# Altium footprint library UL_STM32MP135DAG7.PcbLib: 1 footprints
Each footprint in its own frame and in the unit in brackets; x right, y up, seen from the top. Pads: shape width x height; smd on the part's side, far side on the other; paste and mask are expansions set on the pad; w line width, h text height; cw(c..) or ccw(c..) is an arc to the next point about the centre after c.
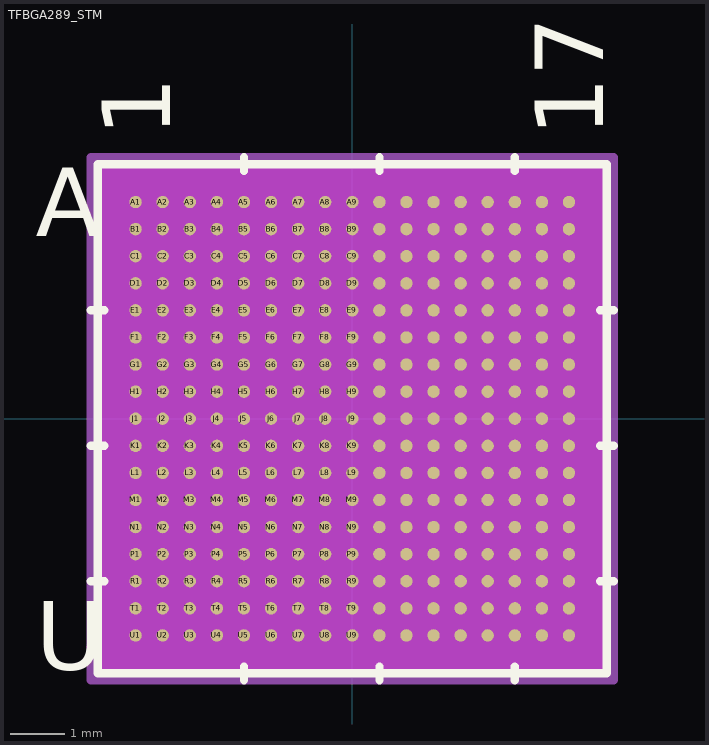
[diagram p0: the footprint, top view; thin cyan lines are the x and y axes]

## TFBGA289_STM [mil]
pads (289):
  round 9 smd paste+0 mask+0: A1(-157.48,157.48) A2(-137.8,157.48) A3(-118.11,157.48) A4(-98.43,157.48) A5(-78.74,157.48) A6(-59.06,157.48) A7(-39.37,157.48) A8(-19.68,157.48) A9(0,157.48) A10(19.68,157.48) A11(39.37,157.48) A12(59.06,157.48) A13(78.74,157.48) A14(98.43,157.48) A15(118.11,157.48) A16(137.8,157.48) A17(157.48,157.48) B1(-157.48,137.8) B2(-137.8,137.8) B3(-118.11,137.8) B4(-98.43,137.8) B5(-78.74,137.8) B6(-59.06,137.8) B7(-39.37,137.8) B8(-19.68,137.8) B9(0,137.8) B10(19.68,137.8) B11(39.37,137.8) B12(59.06,137.8) B13(78.74,137.8) B14(98.43,137.8) B15(118.11,137.8) B16(137.8,137.8) B17(157.48,137.8) C1(-157.48,118.11) C2(-137.8,118.11) C3(-118.11,118.11) C4(-98.43,118.11) C5(-78.74,118.11) C6(-59.06,118.11) C7(-39.37,118.11) C8(-19.68,118.11) C9(0,118.11) C10(19.68,118.11) C11(39.37,118.11) C12(59.06,118.11) C13(78.74,118.11) C14(98.43,118.11) C15(118.11,118.11) C16(137.8,118.11) C17(157.48,118.11) D1(-157.48,98.43) D2(-137.8,98.43) D3(-118.11,98.43) D4(-98.43,98.43) D5(-78.74,98.43) D6(-59.06,98.43) D7(-39.37,98.43) D8(-19.68,98.43) D9(0,98.43) D10(19.68,98.43) D11(39.37,98.43) D12(59.06,98.43) D13(78.74,98.43) D14(98.43,98.43) D15(118.11,98.43) D16(137.8,98.43) D17(157.48,98.43) E1(-157.48,78.74) E2(-137.8,78.74) E3(-118.11,78.74) E4(-98.43,78.74) E5(-78.74,78.74) E6(-59.06,78.74) E7(-39.37,78.74) E8(-19.68,78.74) E9(0,78.74) E10(19.68,78.74) E11(39.37,78.74) E12(59.06,78.74) E13(78.74,78.74) E14(98.43,78.74) E15(118.11,78.74) E16(137.8,78.74) E17(157.48,78.74) F1(-157.48,59.06) F2(-137.8,59.06) F3(-118.11,59.06) F4(-98.43,59.06) F5(-78.74,59.06) F6(-59.06,59.06) F7(-39.37,59.06) F8(-19.68,59.06) F9(0,59.06) F10(19.68,59.06) F11(39.37,59.06) F12(59.06,59.06) F13(78.74,59.06) F14(98.43,59.06) F15(118.11,59.06) F16(137.8,59.06) F17(157.48,59.06) G1(-157.48,39.37) G2(-137.8,39.37) G3(-118.11,39.37) G4(-98.43,39.37) G5(-78.74,39.37) G6(-59.06,39.37) G7(-39.37,39.37) G8(-19.68,39.37) G9(0,39.37) G10(19.68,39.37) G11(39.37,39.37) G12(59.06,39.37) G13(78.74,39.37) G14(98.43,39.37) G15(118.11,39.37) G16(137.8,39.37) G17(157.48,39.37) H1(-157.48,19.68) H2(-137.8,19.68) H3(-118.11,19.68) H4(-98.43,19.68) H5(-78.74,19.68) H6(-59.06,19.68) H7(-39.37,19.68) H8(-19.68,19.68) H9(0,19.68) H10(19.68,19.68) H11(39.37,19.68) H12(59.06,19.68) H13(78.74,19.68) H14(98.43,19.68) H15(118.11,19.68) H16(137.8,19.68) H17(157.48,19.68) J1(-157.48,0) J2(-137.8,0) J3(-118.11,0) J4(-98.43,0) J5(-78.74,0) J6(-59.06,0) J7(-39.37,0) J8(-19.68,0) J9(0,0) J10(19.68,0) J11(39.37,0) J12(59.06,0) J13(78.74,0) J14(98.43,0) J15(118.11,0) J16(137.8,0) J17(157.48,0) K1(-157.48,-19.68) K2(-137.8,-19.68) K3(-118.11,-19.68) K4(-98.43,-19.68) K5(-78.74,-19.68) K6(-59.06,-19.68) K7(-39.37,-19.68) K8(-19.68,-19.68) K9(0,-19.68) K10(19.68,-19.68) K11(39.37,-19.68) K12(59.06,-19.68) K13(78.74,-19.68) K14(98.43,-19.68) K15(118.11,-19.68) K16(137.8,-19.68) K17(157.48,-19.68) L1(-157.48,-39.37) L2(-137.8,-39.37) L3(-118.11,-39.37) L4(-98.43,-39.37) L5(-78.74,-39.37) L6(-59.06,-39.37) L7(-39.37,-39.37) L8(-19.68,-39.37) L9(0,-39.37) L10(19.68,-39.37) L11(39.37,-39.37) L12(59.06,-39.37) L13(78.74,-39.37) L14(98.43,-39.37) L15(118.11,-39.37) L16(137.8,-39.37) L17(157.48,-39.37) M1(-157.48,-59.06) M2(-137.8,-59.06) M3(-118.11,-59.06) M4(-98.43,-59.06) M5(-78.74,-59.06) M6(-59.06,-59.06) M7(-39.37,-59.06) M8(-19.68,-59.06) M9(0,-59.06) M10(19.68,-59.06) M11(39.37,-59.06) M12(59.06,-59.06) M13(78.74,-59.06) M14(98.43,-59.06) M15(118.11,-59.06) M16(137.8,-59.06) M17(157.48,-59.06) N1(-157.48,-78.74) N2(-137.8,-78.74) N3(-118.11,-78.74) N4(-98.43,-78.74) N5(-78.74,-78.74) N6(-59.06,-78.74) N7(-39.37,-78.74) N8(-19.68,-78.74) N9(0,-78.74) N10(19.68,-78.74) N11(39.37,-78.74) N12(59.06,-78.74) N13(78.74,-78.74) N14(98.43,-78.74) N15(118.11,-78.74) N16(137.8,-78.74) N17(157.48,-78.74) P1(-157.48,-98.43) P2(-137.8,-98.43) P3(-118.11,-98.43) P4(-98.43,-98.43) P5(-78.74,-98.43) P6(-59.06,-98.43) P7(-39.37,-98.43) P8(-19.68,-98.43) P9(0,-98.43) P10(19.68,-98.43) P11(39.37,-98.43) P12(59.06,-98.43) P13(78.74,-98.43) P14(98.43,-98.43) P15(118.11,-98.43) P16(137.8,-98.43) P17(157.48,-98.43) R1(-157.48,-118.11) R2(-137.8,-118.11) R3(-118.11,-118.11) R4(-98.43,-118.11) R5(-78.74,-118.11) R6(-59.06,-118.11) R7(-39.37,-118.11) R8(-19.68,-118.11) R9(0,-118.11) R10(19.68,-118.11) R11(39.37,-118.11) R12(59.06,-118.11) R13(78.74,-118.11) R14(98.43,-118.11) R15(118.11,-118.11) R16(137.8,-118.11) R17(157.48,-118.11) T1(-157.48,-137.8) T2(-137.8,-137.8) T3(-118.11,-137.8) T4(-98.43,-137.8) T5(-78.74,-137.8) T6(-59.06,-137.8) T7(-39.37,-137.8) T8(-19.68,-137.8) T9(0,-137.8) T10(19.68,-137.8) T11(39.37,-137.8) T12(59.06,-137.8) T13(78.74,-137.8) T14(98.43,-137.8) T15(118.11,-137.8) T16(137.8,-137.8) T17(157.48,-137.8) U1(-157.48,-157.48) U2(-137.8,-157.48) U3(-118.11,-157.48) U4(-98.43,-157.48) U5(-78.74,-157.48) U6(-59.06,-157.48) U7(-39.37,-157.48) U8(-19.68,-157.48) U9(0,-157.48) U10(19.68,-157.48) U11(39.37,-157.48) U12(59.06,-157.48) U13(78.74,-157.48) U14(98.43,-157.48) U15(118.11,-157.48) U16(137.8,-157.48) U17(157.48,-157.48)
Top Overlay:
  lines w6: -190,-118.11 -180,-118.11 ; -190,-19.69 -180,-19.69 ; -190,78.74 -180,78.74 ; -78.74,-190 -78.74,-180 ; -78.74,180 -78.74,190 ; 19.69,-190 19.69,-180 ; 19.69,180 19.69,190 ; 118.11,-190 118.11,-180 ; 118.11,180 118.11,190 ; 180,-118.11 190,-118.11 ; 180,-19.69 190,-19.69 ; 180,78.74 190,78.74 ; -185,-185 185,-185 185,185 -185,185 -185,-185
  text "A" at -230,132.48 h50
  text "U" at -230,-182.48 h50
  text "1" at -132.48,205 h50
  text "17" at 182.48,205 h50
Bottom Overlay:
  text "A" at -205,132.48 h50
  text "U" at -205,-182.48 h50
  text "1" at -182.48,205 h50
  text "17" at 132.48,205 h50
Top Paste:
  region: -20.66,10.82
  region: 20.66,10.82
  region: 20.66,-10.82
  region: -20.66,-10.82
  region: 0,10.82
Keep-Out Layer:
  region: -184.82,-184.82 -184.82,184.82 184.82,184.82 184.82,-184.82
Mechanical 13:
  lines w1: -180,170.16 -170.16,180 ; -180,-180 180,-180 180,180 -180,180 -180,-180
  text "A" at -230,132.48 h50
  text "U" at -230,-182.48 h50
  text "1" at -132.48,205 h50
  text "17" at 182.48,205 h50
Mechanical 15:
  region: 190,-190 -190,-190 -190,190 190,190
  lines w6: -190,-190 -190,190 190,190 190,-190 -190,-190
3D body "TFBGA289_STM.step": height 47.09, standoff -0.01, extent -180,-180 180,180